# EAGLE library part ADC,AD7366/7(12-14-BIT,DUAL,1MSPS,SERIAL) (library QuantumOptics)
ADC, dual 12- or 14-bit simultaneous, serial, Analog Devices AD7366/7367.
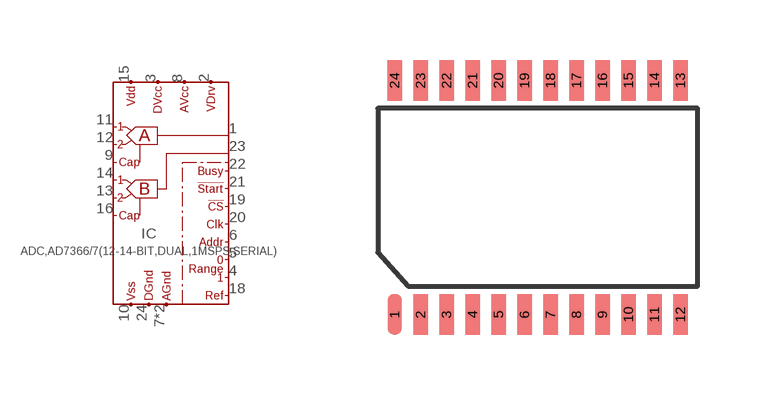
[diagram p195: symbol with the pads of TSSOP-24; footprint TSSOP-24]

Designator prefix IC

## ADC,AD7366/7(12-14-BIT,DUAL,1MSPS,SERIAL)-TSSOP24  [TSSOP-24]
1  OUTA  out
2  VDRIVE
3  DVCC
4  RANGE1  in
5  RANGE0  in
6  ADDR  in
7  AGND
8  AVCC
9  CAPA  out
10  VSS
11  INA1  in
12  INA2  in
13  INB2  in
14  INB1  in
15  VDD
16  CAPB  out
17  AGND
18  REFSEL  in
19  !CS  in
20  SCLK  in
21  !CNVST  in
22  BUSY  out
23  OUTB  out
24  DGND

## Footprint TSSOP-24 (pad centres in mm)
TSSOP-24, pins 0.65mm c-c spacing, nominal 6.4mm pins max W.
smd 0.356 x 1.016: 1 -3.575,-2.925; 2 -2.925,-2.925; 3 -2.275,-2.925; 4 -1.625,-2.925; 5 -0.975,-2.925; 6 -0.325,-2.925; 7 0.325,-2.925; 8 0.975,-2.925; 9 1.625,-2.925; 10 2.275,-2.925; 11 2.925,-2.925; 12 3.575,-2.925; 13 3.575,2.925; 14 2.925,2.925; 15 2.275,2.925; 16 1.625,2.925; 17 0.975,2.925; 18 0.325,2.925; 19 -0.325,2.925; 20 -0.975,2.925; 21 -1.625,2.925; 22 -2.275,2.925; 23 -2.925,2.925; 24 -3.575,2.925